# Altium schematic symbol library DI_LED_YG_2P.SchLib: 1 symbol
Pins are listed as number, name and electrical type; pins without a type are passive.

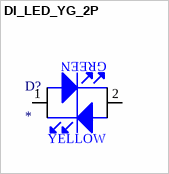
[diagram p0: symbol DI_LED_YG_2P]

## DI_LED_YG_2P
designator D?
pins: 1 A, 2 C
text: GREEN; YELLOW